# EAGLE library part DRV8833_BREAKOUT (library maciver_robot_lib)
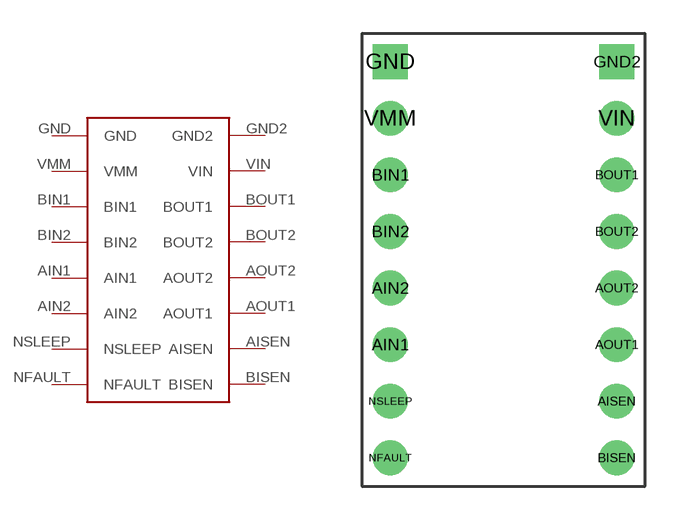
[diagram p5: symbol with the pads of DRV8833_BREAKOUT; footprint DRV8833_BREAKOUT]

Designator prefix -

## DRV8833_BREAKOUT  [DRV8833_BREAKOUT]
AIN1  AIN1
AIN2  AIN2
AISEN  AISEN
AOUT1  AOUT1
AOUT2  AOUT2
BIN1  BIN1
BIN2  BIN2
BISEN  BISEN
BOUT1  BOUT1
BOUT2  BOUT2
GND  GND
GND2  GND2
NFAULT  NFAULT
NSLEEP  NSLEEP
VIN  VIN
VMM  VMM

## Footprint DRV8833_BREAKOUT (pad centres in mm)
drill 1.04: AIN1 -5.08,-3.81; AIN2 -5.08,-1.27; AISEN 5.08,-6.35; AOUT1 5.08,-3.81; AOUT2 5.08,-1.27; BIN1 -5.08,3.81; BIN2 -5.08,1.27; BISEN 5.08,-8.89; BOUT1 5.08,3.81; BOUT2 5.08,1.27; NFAULT -5.08,-8.89; NSLEEP -5.08,-6.35; VIN 5.08,6.35; VMM -5.08,6.35
drill 1.04 square: GND -5.08,8.89; GND2 5.08,8.89